# EAGLE library part 9604-50 (library impellimax-drivers)
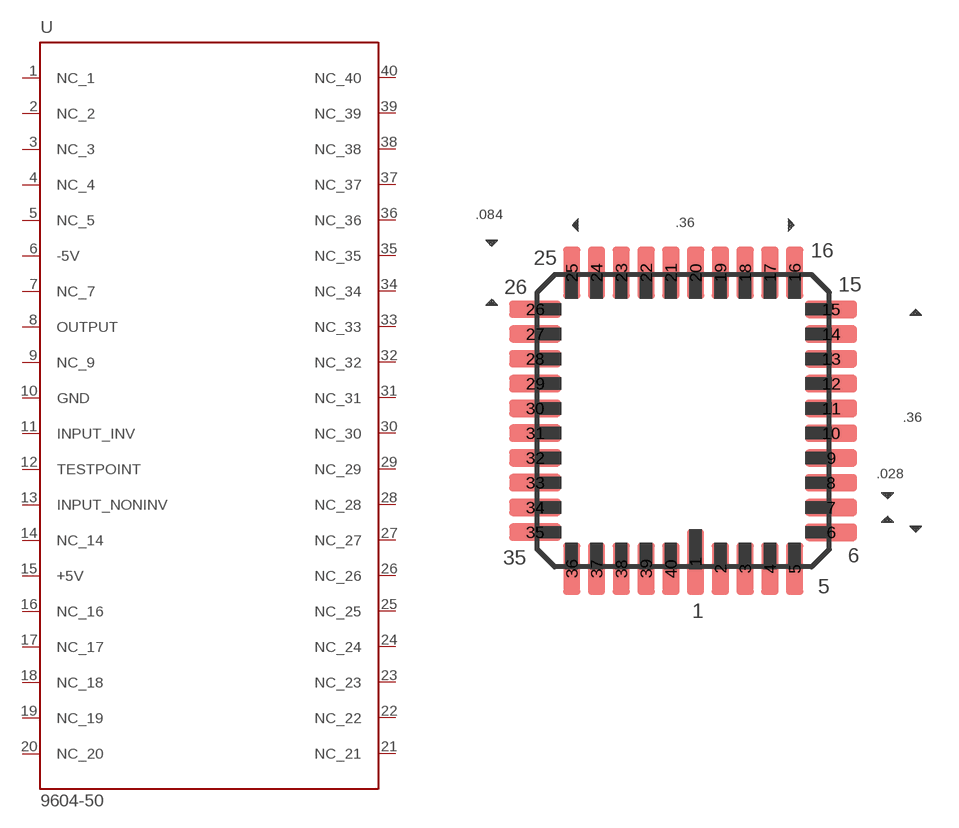
[diagram p43: symbol with the pads of 7424_C102; footprint 7424_C102]

Designator prefix U

## 9604-50  [7424_C102]
1  NC_1  in
2  NC_2  in
3  NC_3  in
4  NC_4  pas
5  NC_5  in
6  -5V  in
7  NC_7  in
8  OUTPUT  pas
9  NC_9  pas
10  GND  pas
11  INPUT_INV  pas
12  TESTPOINT  pas
13  INPUT_NONINV  pas
14  NC_14  pas
15  +5V  pas
16  NC_16  pas
17  NC_17  pas
18  NC_18  pas
19  NC_19  pas
20  NC_20  pas
21  NC_21  in
22  NC_22  in
23  NC_23  in
24  NC_24  in
25  NC_25  in
26  NC_26  in
27  NC_27  in
28  NC_28  in
29  NC_29  in
30  NC_30  pas
31  NC_31  pas
32  NC_32  pas
33  NC_33  pas
34  NC_34  pas
35  NC_35  pas
36  NC_36  pas
37  NC_37  pas
38  NC_38  pas
39  NC_39  pas
40  NC_40  pas

## Footprint 7424_C102 (pad centres in mm)
smd 0.711 x 2.692: 1 0.506,-5.793
smd 0.711 x 2.134: 2 1.526,-6.069; 3 2.542,-6.069; 4 3.558,-6.069; 5 4.574,-6.069; 16 4.574,6.069; 17 3.558,6.069; 18 2.542,6.069; 19 1.526,6.069; 20 0.51,6.069; 21 -0.506,6.069; 22 -1.522,6.069; 23 -2.538,6.069; 24 -3.554,6.069; 25 -4.57,6.069; 36 -4.57,-6.069; 37 -3.554,-6.069; 38 -2.538,-6.069; 39 -1.522,-6.069; 40 -0.506,-6.069
smd 2.134 x 0.711: 6 6.069,-4.574; 7 6.069,-3.558; 8 6.069,-2.542; 9 6.069,-1.526; 10 6.069,-0.51; 11 6.069,0.506; 12 6.069,1.522; 13 6.069,2.538; 14 6.069,3.554; 15 6.069,4.57; 26 -6.069,4.574; 27 -6.069,3.558; 28 -6.069,2.542; 29 -6.069,1.526; 30 -6.069,0.51; 31 -6.069,-0.506; 32 -6.069,-1.522; 33 -6.069,-2.538; 34 -6.069,-3.554; 35 -6.069,-4.57